# Altium footprint library ZIN-7&8 主控器件封装.PcbLib: 17 footprints (part 1 of 2)
Each footprint in its own frame and in the unit in brackets; x right, y up, seen from the top. Pads: shape width x height; smd on the part's side, far side on the other; paste and mask are expansions set on the pad; w line width, h text height; cw(c..) or ccw(c..) is an arc to the next point about the centre after c.
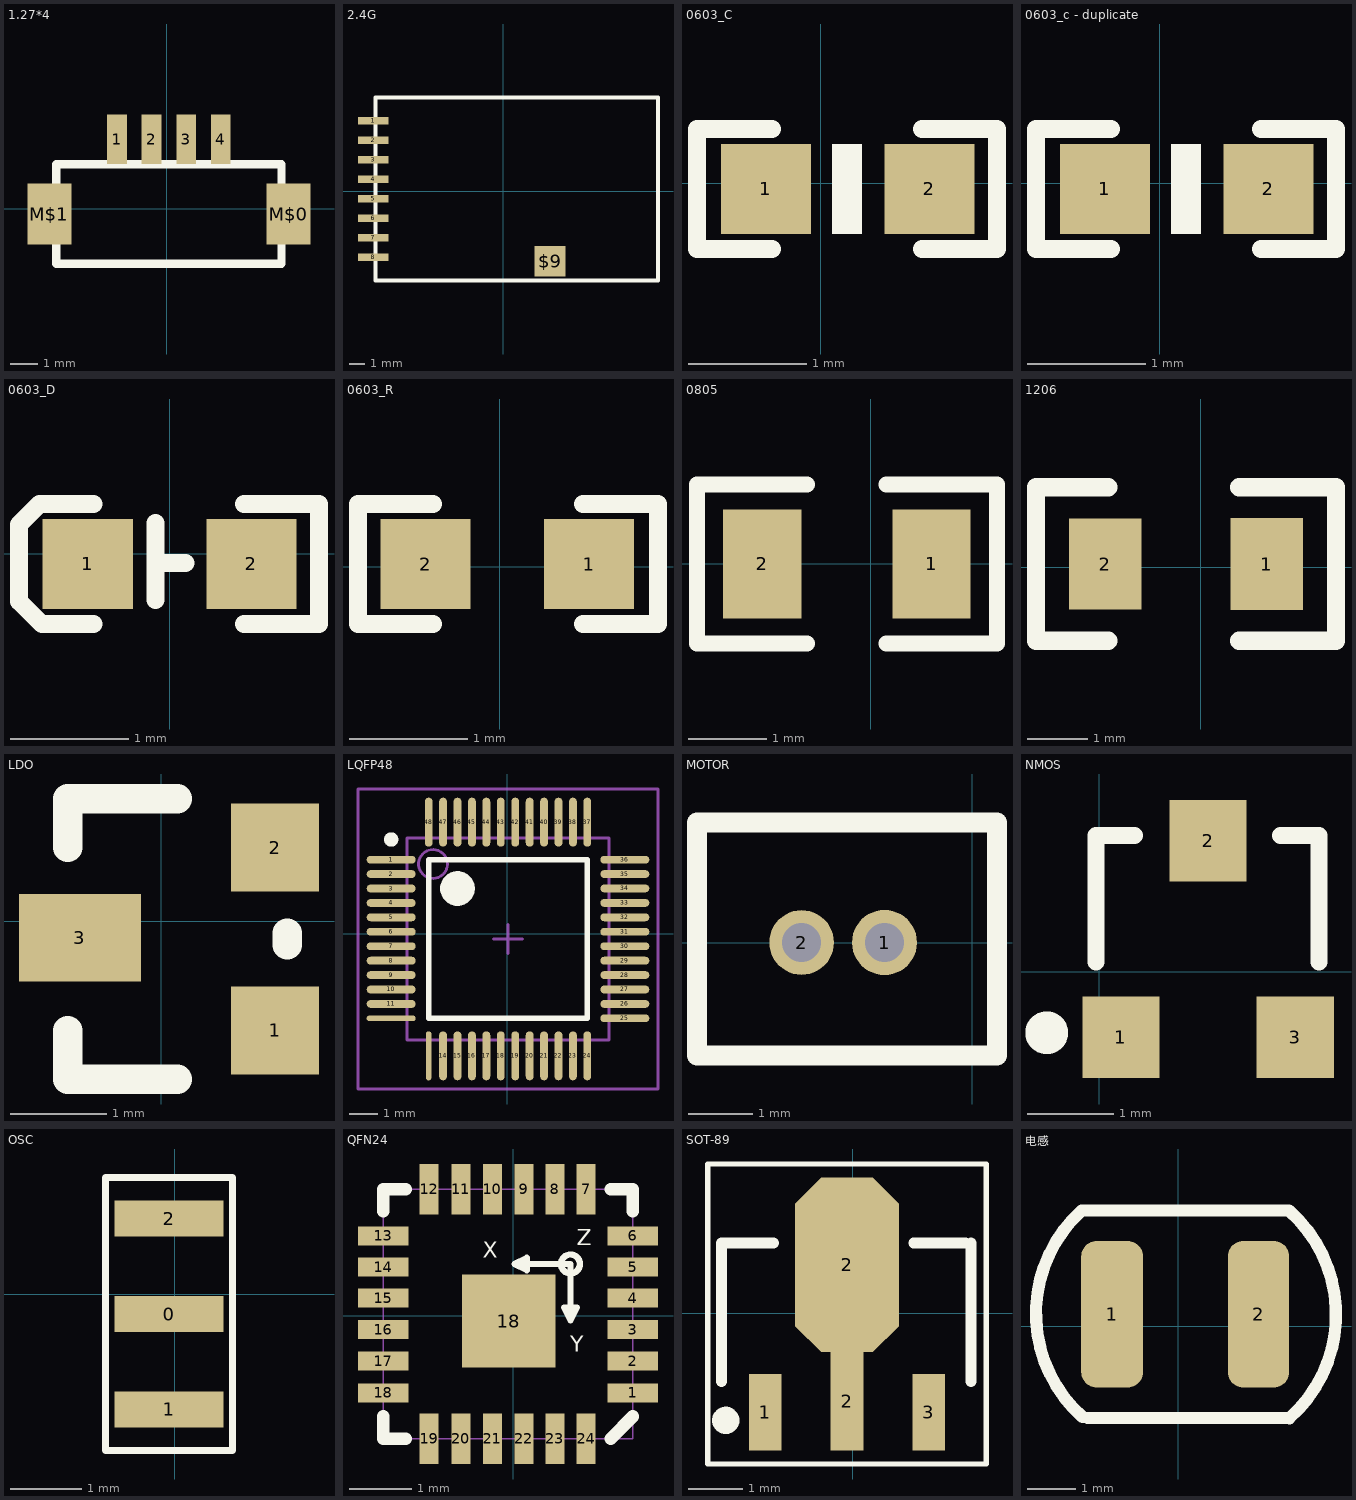
[diagram p0: the footprints below, top view; thin cyan lines are the x and y axes]

## 1.27*4 [mil]
pads (6):
  rect 28x71 smd: 1(-70.82,99) 2(-21.61,99) 3(28,99) 4(77,99)
  rect 63x87 smd: M$0(174,-7.87) M$1(-167.28,-7.87)
Top Overlay:
  lines w12: -157.43,-78.73 -157.43,63 164,63 164,-78.73 -157.43,-78.73
  text "." at -133.81,124 h155

## 2.4G [mm]
pads (9):
  rect 2x0.5 smd: 1(-8.46,4.581) 2(-8.46,3.311) 3(-8.46,2.041) 4(-8.46,0.771) 5(-8.46,-0.499) 6(-8.46,-1.769) 7(-8.46,-3.039) 8(-8.46,-4.309)
  rect 2x2 smd: $9(3.048,-4.572)
Top Overlay:
  lines w0.254: -8.333,-5.833 -8.333,6.105 10.082,6.105 10.082,-5.833 -8.333,-5.833
3D body: height 0.9, standoff -0.01, extent -8.382,-5.842 10.033,6.096

## 0603_C [mil]
pads (2):
  rect 30x30 smd: 1(-18.25,-1.9) 2(36.25,-1.97)
Top Overlay:
  region: 13.76,-16.91 13.76,13.09 3.76,13.09 3.76,-16.91
  lines w6: -16.25,-21.97 -41.25,-21.97 -41.25,18.03 -16.25,18.03 ; 33.75,-21.97 58.75,-21.97 58.75,18.03 33.75,18.03
3D body: height 34.92, standoff -0.51, extent -24.46,-19.65 42.47,15.79

## 0603_c - duplicate [mil]
pads (2):
  rect 30x30 smd: 1(-18.25,-1.9) 2(36.25,-1.97)
Top Overlay:
  region: 13.76,-16.94 13.76,13.06 3.76,13.06 3.76,-16.94
  lines w6: -16.25,-21.97 -41.25,-21.97 -41.25,18.03 -16.25,18.03 ; 33.75,-21.97 58.75,-21.97 58.75,18.03 33.75,18.03
3D body: height 34.92, standoff -0.51, extent -24.46,-19.65 42.47,15.79

## 0603_D [mil]
pads (2):
  rect 30x30 smd: 1(-27.29,-3.42) 2(27.21,-3.48)
Top Overlay:
  lines w6: -25.29,-23.48 -42.59,-23.48 -50.17,-15.9 -50.17,9.69 -43.34,16.52 -25.29,16.52 ; -4.7,-15.51 -4.7,10.08 ; -2.53,-3.11 5.23,-3.21 ; 24.71,-23.48 49.71,-23.48 49.71,16.52 24.71,16.52
3D body: height 34.92, standoff -0.51, extent -33.5,-21.16 33.43,14.27

## 0603_R [mil]
pads (2):
  rect 30x30 smd: 1(29.82,0.9) 2(-24.68,0.97)
Top Overlay:
  lines w6: -22.18,-19.03 -47.18,-19.03 -47.18,20.97 -22.18,20.97 ; 27.82,-19.03 52.82,-19.03 52.82,20.97 27.82,20.97
3D body: height 34.92, standoff -0.51, extent -30.9,-16.79 36.03,18.65

## 0805 [mm]
pads (2):
  rect 1x1.4 smd: 1(0.78,-0.003) 2(-1.388,-0.003)
Top Overlay:
  lines w0.203: -0.817,-1.019 -2.224,-1.019 -2.224,1.013 -0.817,1.013 ; 0.199,-1.019 1.617,-1.019 1.617,1.013 0.199,1.013

## 1206 [mil]
pads (2):
  rect 47.24x60 smd: 1(43,2)
  rect 47.24x59.06 smd: 2(-62,2)
Top Overlay:
  lines w12: -60,-48 -107,-48 -107,52 -60,52 ; 25,-48 88,-48 88,52 25,52

## LDO [mil]
pads (3):
  rect 36x36 smd: 1(46.66,-44.81) 2(46.66,30.19)
  rect 50x36 smd: 3(-33.34,-6.81)
Top Overlay:
  lines w12: -38.34,-44.81 -38.34,-64.81 6.66,-64.81 ; -38.34,30.19 -38.34,50.19 6.66,50.19 ; 51.66,-9.81 51.66,-4.81

## LQFP48 [mm]
pads (48):
  oval 1.7x0.27 smd: 1(-4.025,2.572) 2(-4.025,2.072) 3(-4.025,1.572) 4(-4.025,1.072) 5(-4.025,0.572) 6(-4.025,0.072) 7(-4.025,-0.428) 8(-4.025,-0.928) 9(-4.025,-1.428) 10(-4.025,-1.928) 11(-4.025,-2.428) 25(4.075,-2.928) 26(4.075,-2.428) 27(4.075,-1.928) 28(4.075,-1.428) 29(4.075,-0.928) 30(4.075,-0.428) 31(4.075,0.072) 32(4.075,0.572) 33(4.075,1.074) 34(4.075,1.576) 35(4.075,2.072) 36(4.075,2.572)
  oval 1.7x0.2 smd: 12(-4.025,-2.928)
  oval 0.2x1.7 smd: 13(-2.725,-4.228)
  oval 0.27x1.7 smd: 14(-2.225,-4.228) 15(-1.725,-4.228) 16(-1.225,-4.228) 17(-0.725,-4.228) 18(-0.225,-4.228) 19(0.275,-4.228) 20(0.775,-4.228) 21(1.275,-4.228) 22(1.775,-4.228) 23(2.275,-4.228) 24(2.775,-4.228) 37(2.775,3.872) 38(2.275,3.872) 39(1.775,3.872) 40(1.275,3.872) 41(0.775,3.872) 42(0.275,3.872) 43(-0.225,3.872) 44(-0.725,3.872) 45(-1.225,3.872) 46(-1.725,3.872) 47(-2.225,3.872) 48(-2.725,3.872)
Top Overlay:
  circle w0.6: c-1.725,1.572 r0.3
  circle w0.25: c-4.025,3.272 r0.125
  lines w0.2: -2.725,-2.928 2.775,-2.928 2.775,2.572 -2.725,2.572 -2.725,-2.928
Mechanical 13:
  circle w0.1: c-2.575,2.422 r0.5
  lines w0.1: -3.475,-3.678 3.525,-3.678 3.525,3.322 -3.475,3.322 -3.475,-3.678
Mechanical 15:
  lines w0.1: -0.475,-0.178 0.525,-0.178 ; 0.025,-0.678 0.025,0.322 ; -5.175,-5.378 5.225,-5.378 5.225,5.022 -5.175,5.022 -5.175,-5.378
3D body: height 1.6, standoff 0, extent -3.475,-3.678 3.525,3.322

## MOTOR [mm]
pads (2):
  oval 1x1.009 hole 0.6: 1(-1.357,0)
  round 1 hole 0.6: 2(-2.637,0)
Top Overlay:
  lines w0.305: -4.253,-1.746 0.381,-1.746 0.381,1.854 -4.253,1.854 -4.253,-1.746

## NMOS [mm]
pads (3):
  rect 0.9x0.95 smd: 1(0.254,-0.762) 2(1.27,1.524) 3(2.286,-0.762)
Top Overlay:
  circle w0.25: c-0.612,-0.712 r0.125
  lines w0.2: -0.037,0.113 -0.037,1.588 0.413,1.588 ; 2.113,1.588 2.563,1.588 2.563,0.113

## OSC [mil]
pads (3):
  rect 60x19.68 smd: 0(-3.25,-11) 1(-3.25,-63.5) 2(-3.25,41.5)
Top Overlay:
  lines w3.94: -38.25,-86 31.75,-86 31.75,64 -38.25,64 -38.25,-56 -38.25,-86
3D body: height 35.43, standoff -0.2, extent -32.31,-91.71 26.75,69.71

## QFN24 [mil]
pads (25):
  rect 32x12 smd: 1(75.49,-48.74) 2(75.49,-28.74) 3(75.49,-8.74) 4(75.49,11.1) 5(75.49,30.79) 6(75.49,50.47) 13(-82.25,50.47) 14(-82.25,30.79) 15(-82.25,11.1) 16(-82.25,-8.74) 17(-82.25,-28.74) 18(-82.25,-48.74)
  rect 12x32 smd: 7(45.96,80) 8(26.28,80) 9(6.59,80) 10(-13.25,80) 11(-33.25,80) 12(-53.25,80) 19(-53.25,-77.74) 20(-33.25,-77.74) 21(-13.25,-77.74) 22(6.59,-77.74) 23(26.28,-77.74) 24(45.96,-77.74)
  rect 59.06x59.06 smd: 18(-3.01,-3.31)
Top Overlay:
  circle w4: c36.12,32.75 r6
  lines w4: 0.69,32.75 36.12,32.75 36.12,-2.74 ; 0.69,32.75 8.56,36.69 8.56,28.82 0.69,32.75 ; 36.12,-2.74 40.06,5.2 32.18,5.2 36.12,-2.74
  lines w8: -82.25,-63.74 -82.25,-77.74 -68.25,-77.74 ; -82.25,66.22 -82.25,80 -68.25,80 ; 61.71,-77.74 75.49,-63.74 ; 61.71,80 75.49,80 75.49,66.22
  text "X" at -19.25,36.69 h10.2
  text "Y" at 36.12,-22.74 h10.2
  text "Z" at 40.06,44.57 h10.2
Mechanical 4:
Mechanical 16:
  lines w1: -82.25,-77.74 75.49,-77.74 75.49,80 -82.25,80 -82.25,-77.74
3D body: height 34.92, standoff -0.51, extent -77.37,-74.85 72.02,74.49

## SOT-89 [mm]
pads (4):
  rect 0.6x1.4 smd: 1(-1.605,-1.816) 3(1.395,-1.816)
  rect 0.6x1.8 smd: 2(-0.105,-1.616)
  oct 1.9x3.2 smd: 2(-0.105,0.884)
Top Overlay:
  circle w0.25: c-2.328,-1.966 r0.125
  lines w0.1: -2.655,-2.766 -2.655,2.734 2.445,2.734 2.445,-2.766 -2.655,-2.766
  lines w0.2: -2.405,-1.253 -2.405,1.284 -1.455,1.284 ; 1.118,1.284 2.068,1.284 ; 2.167,-1.253 2.167,1.284

## 电感 [mil]
pads (2):
  rrect50% 50.74x120.48 smd: 1(-54,10)
  rrect50% 50x120.48 smd: 2(66,10)
Top Overlay:
  lines w10: -78.35,-74.21 cw(c-2.75,10.69) -79,95 91,95 cw(c15.83,9.73) 91.27,-75.31 ; -74,-75 91,-75